# Altium schematic symbol library 3020-06-0300-00.Schlib: 1 symbol
Pins are listed as number, name and electrical type; pins without a type are passive.

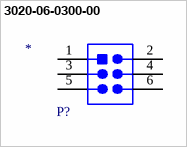
[diagram p0: symbol 3020-06-0300-00]

## 3020-06-0300-00
designator P?
Value: *
pins: 1, 2, 3, 4, 5, 6